# EAGLE library part THS4271D (library THS4271D)
Super-Fast Ultra-Low Distortion High Speed Amplifier Source: Datasheet <http://www.ti.com/lit/ds/symlink/ths4271.pdf>
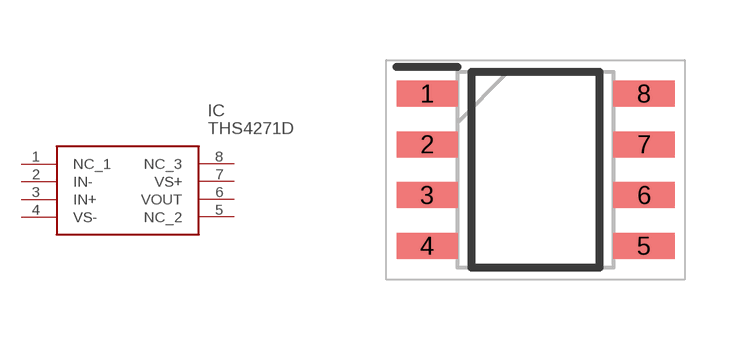
[diagram p0: symbol with the pads of SOIC127P600X175-8N; footprint SOIC127P600X175-8N]

Designator prefix IC

## THS4271D (Description: Super-Fast Ultra-Low Distortion High Speed Amplifier; Height: 1.75mm; Manufacturer_Name: Texas Instruments; Manufacturer_Part_Number: THS4271D; Mouser_Part_Number: 595-THS4271D; Mouser_Price-Stock: https://www.mouser.co.uk/ProductDetail/Texas-Instruments/THS4271D?qs=ZmJdcv7QZ9ppdaigv2fizw%3D%3D)  [SOIC127P600X175-8N]
1  NC_1
2  IN-
3  IN+
4  VS-
5  NC_2
6  VOUT
7  VS+
8  NC_3

## Footprint SOIC127P600X175-8N (pad centres in mm)
D0008A
smd 1.528 x 0.65: 1 -2.711,1.905; 2 -2.711,0.635; 3 -2.711,-0.635; 4 -2.711,-1.905; 5 2.711,-1.905; 6 2.711,-0.635; 7 2.711,0.635; 8 2.711,1.905